# EAGLE library part 20PIN2MM (library Particle)
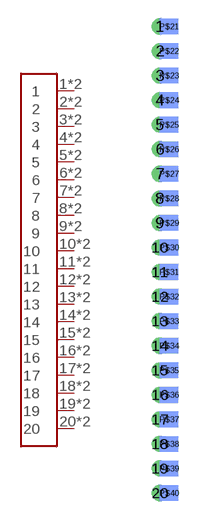
[diagram p31: symbol with the pads of 20PIN2MM; footprint 20PIN2MM]

Designator prefix CON$

## 20PIN2MM  [20PIN2MM]
1  1
2  2
3  3
4  4
5  5
6  6
7  7
8  8
9  9
10  10
11  11
12  12
13  13
14  14
15  15
16  16
17  17
18  18
19  19
20  20
P$21  1
P$22  2
P$23  3
P$24  4
P$25  5
P$26  6
P$27  7
P$28  8
P$29  9
P$30  10
P$31  11
P$32  12
P$33  13
P$34  14
P$35  15
P$36  16
P$37  17
P$38  18
P$39  19
P$40  20

## Footprint 20PIN2MM (pad centres in mm)
drill 0.8 pad 1.27: 1 0,0; 2 0,-2; 3 0,-4; 4 0,-6; 5 0,-8; 6 0,-10; 7 0,-12; 8 0,-14; 9 0,-16; 10 0,-18; 11 0,-20; 12 0,-22; 13 0,-24; 14 0,-26; 15 0,-28; 16 0,-30; 17 0,-32; 18 0,-34; 19 0,-36; 20 0,-38
smd 1.5 x 1.27 bottom: P$21 0.75,0; P$22 0.75,-2; P$23 0.75,-4; P$24 0.75,-6; P$25 0.75,-8; P$26 0.75,-10; P$27 0.75,-12; P$28 0.75,-14; P$29 0.75,-16; P$30 0.75,-18; P$31 0.75,-20; P$32 0.75,-22; P$33 0.75,-24; P$34 0.75,-26; P$35 0.75,-28; P$36 0.75,-30; P$37 0.75,-32; P$38 0.75,-34; P$39 0.75,-36; P$40 0.75,-38